# EAGLE library part FT245BL (library ftdichip-4)
USB FIFO 2nd Generation USB FIFO (USB <-> Parallel) Controller
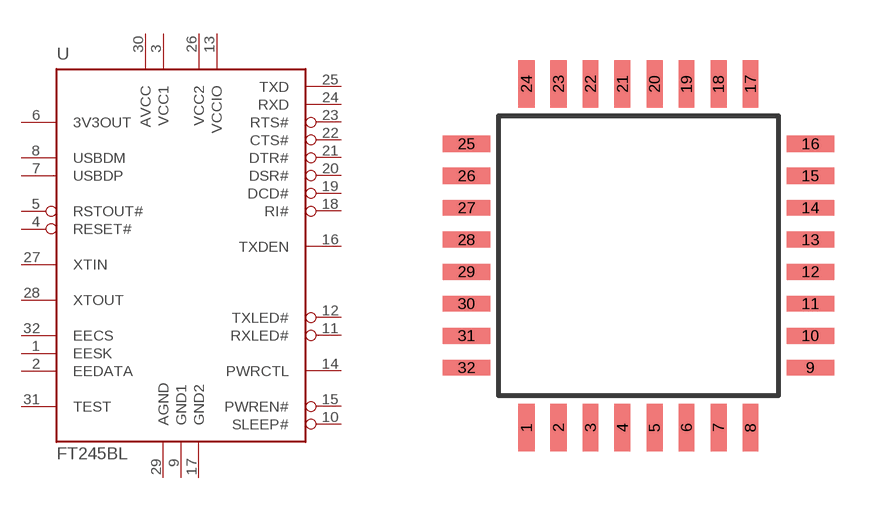
[diagram p1: symbol with the pads of LQFP32; footprint LQFP32]

Designator prefix U

## FT245BL  [LQFP32]
1  EESK  out
2  EEDATA
3  VCC1  pwr
4  RESET#  in
5  RSTOUT#  out
6  3V3OUT  out
7  USBDP
8  USBDM
9  GND1  pwr
10  SLEEP#  out
11  RXLED#  oc
12  TXLED#  oc
13  VCCIO  pwr
14  PWRCTL  in
15  PWREN#  out
16  TXDEN  out
17  GND2  pwr
18  RI#  in
19  DCD#  in
20  DSR#  in
21  DTR#  out
22  CTS#  in
23  RTS#  out
24  RXD  in
25  TXD  out
26  VCC2  pwr
27  XTIN  in
28  XTOUT  out
29  AGND  pwr
30  AVCC  pwr
31  TEST  in
32  EECS

## Footprint LQFP32 (pad centres in mm)
LQFP-32 package 7x7 mm case, 0.8 mm lead pitch
smd 0.4 x 1.2: 1 -2.8,-4.3; 2 -2,-4.3; 3 -1.2,-4.3; 4 -0.4,-4.3; 5 0.4,-4.3; 6 1.2,-4.3; 7 2,-4.3; 8 2.8,-4.3; 17 2.8,4.3; 18 2,4.3; 19 1.2,4.3; 20 0.4,4.3; 21 -0.4,4.3; 22 -1.2,4.3; 23 -2,4.3; 24 -2.8,4.3
smd 1.2 x 0.4: 9 4.3,-2.8; 10 4.3,-2; 11 4.3,-1.2; 12 4.3,-0.4; 13 4.3,0.4; 14 4.3,1.2; 15 4.3,2; 16 4.3,2.8; 25 -4.3,2.8; 26 -4.3,2; 27 -4.3,1.2; 28 -4.3,0.4; 29 -4.3,-0.4; 30 -4.3,-1.2; 31 -4.3,-2; 32 -4.3,-2.8